# Altium footprint library Omron.PcbLib: 2 footprints
Each footprint in its own frame and in the unit in brackets; x right, y up, seen from the top. Pads: shape width x height; smd on the part's side, far side on the other; paste and mask are expansions set on the pad; w line width, h text height; cw(c..) or ccw(c..) is an arc to the next point about the centre after c.
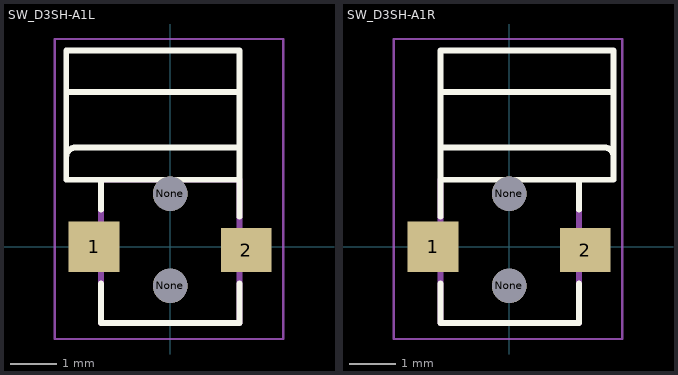
[diagram p0: the footprints below, top view; thin cyan lines are the x and y axes]

## SW_D3SH-A1L [mm]
pads (4):
  rect 1.1x1.1 smd: 1(-1.65,0)
  rect 1.1x0.95 smd: 2(1.65,-0.075)
  round 0.75 hole 0.75 unplated: None(0,-0.85) None(0,1.15)
Top Overlay:
  lines w0.127: -2.25,2 -2.25,3.35 ; -1.5,-0.8 -1.5,-1.65 1.5,-1.65 1.5,-0.8 ; -1.5,0.8 -1.5,1.45 ; 1.5,0.65 1.5,1.45 ; -2.25,3.35 -2.25,4.25 1.5,4.25 1.5,3.35 ; -2.25,3.35 1.5,3.35 ; -1.5,1.45 -2.25,1.45 -2.25,1.95 cw(c-2.05,1.95) -2.05,2.15 1.5,2.15 ; -1.5,1.45 1.5,1.45 ; 1.5,1.45 1.5,2.15 ; 1.5,2.15 1.5,3.35
Mechanical 4:
  lines w0.127: -1.5,-1.65 -1.5,1.45 ; -1.5,-1.65 1.5,-1.65 ; -1.5,-1.65 -1.5,1.45 ; -1.5,-1.65 1.5,-1.65 ; -1.5,1.45 1.5,1.45 ; -1.5,1.45 1.5,1.45 ; 1.5,-1.65 1.5,1.45 ; 1.5,-1.65 1.5,1.45
Mechanical 16:
  lines w0.05: -2.5,-2 -2.5,4.5 2.45,4.5 2.45,-2 -2.5,-2
3D body "D3SH_A1L.step": height 0.9, standoff -0.4, extent -1.89,-1.65 1.89,3.35

## SW_D3SH-A1R [mm]
pads (4):
  rect 1.1x1.1 smd: 1(-1.65,0)
  rect 1.1x0.95 smd: 2(1.65,-0.075)
  round 0.75 hole 0.75 unplated: None(0,-0.85) None(0,1.15)
Top Overlay:
  lines w0.127: -1.488,-0.8 -1.488,-1.65 ; -1.488,0.65 -1.488,1.45 ; 1.512,-0.8 1.512,-1.65 ; 1.512,0.8 1.512,1.45 ; 2.262,2 2.262,3.35 ; -1.488,-1.65 1.512,-1.65 ; -1.488,-1.65 1.512,-1.65 ; -1.488,-1.65 1.512,-1.65 ; -1.488,1.45 1.512,1.45 ; -1.488,1.45 -1.488,2.15 ; -1.488,1.45 1.512,1.45 ; -1.488,1.45 1.512,1.45 ; -1.488,2.15 2.062,2.15 cw(c2.062,1.95) 2.262,1.95 2.262,1.45 1.512,1.45 ; -1.488,2.15 -1.488,3.35 ; -1.488,3.35 2.262,3.35 ; -1.488,3.35 -1.488,4.25 2.262,4.25 2.262,3.35
Mechanical 4:
  lines w0.127: -1.488,-1.65 -1.488,1.45 -1.488,-1.65 ; 1.512,-1.65 1.512,1.45 1.512,-1.65
Mechanical 16:
  lines w0.05: -2.5,-2 -2.5,4.5 2.45,4.5 2.45,-2 -2.5,-2
3D body "D3SH_A1R.step": height 0.9, standoff -0.4, extent -1.89,-1.65 1.89,3.35